# EAGLE library part GQ?* (library df4iah_relay)
ULTRA-SMALL PACKAGE FLAT POLARIZED RELAY NAiS Source: http://www.mew-europe.com/.. en_ds_61008_0000.pdf
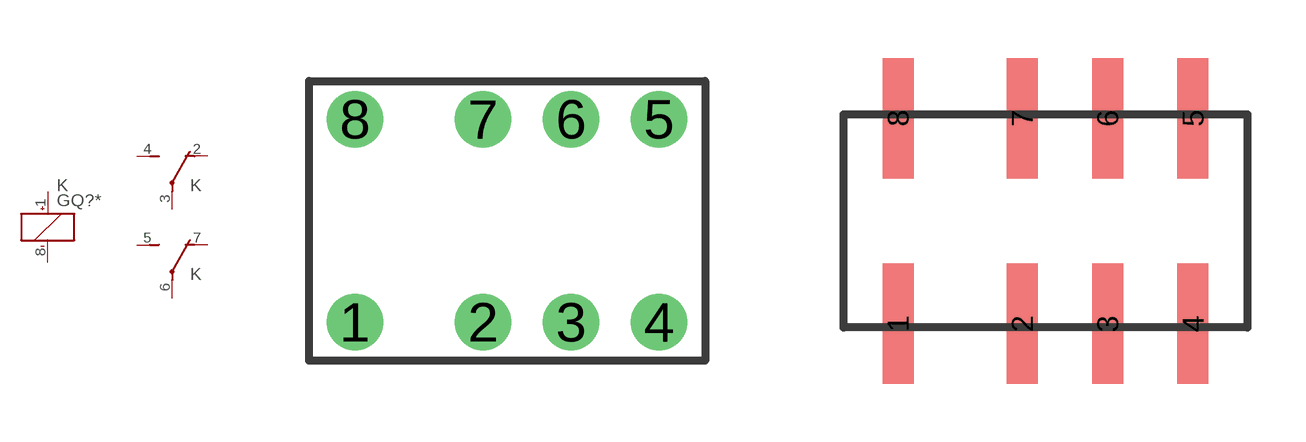
[diagram p60: symbol with the pads of GQ; footprints GQ, GN-A]

Designator prefix K; gates 1=K+- 2=U 3=U

## GQ20003 (MPN: AGQ20003; OC_FARNELL: unknown; OC_NEWARK: 13P0847), GQ20006 (MF: AROMAT/ MATSUSHITA; MPN: AGQ20006; OC_FARNELL: unknown; OC_NEWARK: 10C3360), GQ20009 (MF: AROMAT/ MATSUSHITA; MPN: AGQ20009; OC_FARNELL: unknown; OC_NEWARK: 10C3361), GQ20012 (MPN: AGQ20012; OC_FARNELL: 3104825; OC_NEWARK: 13P0849), GQ2001H (OC_FARNELL: unknown; OC_NEWARK: unknown), GQ20024 (MPN: AGQ20024; OC_FARNELL: unknown; OC_NEWARK: 13P0850), GQ2004H (MPN: AGQ2004H; OC_FARNELL: 3104813; OC_NEWARK: 13P0851)  [GQ]
1  1:+  pas
2  2:O  pas
3  2:P  pas
4  2:S  pas
5  3:S  pas
6  3:P  pas
7  3:O  pas
8  1:-  pas

## GQ200A03 (MPN: AGQ200A03; OC_FARNELL: 1448336; OC_NEWARK: 13P0835), GQ200A06 (OC_FARNELL: unknown; OC_NEWARK: unknown), GQ200A09 (MF: AROMAT/ MATSUSHITA; MPN: AGQ200A09Z; OC_FARNELL: unknown; OC_NEWARK: 10C3339), GQ200A12 (MPN: AGQ200A12; OC_FARNELL: 3104849; OC_NEWARK: 13P0836), GQ200A1H (OC_FARNELL: unknown; OC_NEWARK: unknown), GQ200A24 (MPN: AGQ200A24; OC_FARNELL: 1448337; OC_NEWARK: 13P0837), GQ200A4H (MPN: AGQ200A4H; OC_FARNELL: 3104837; OC_NEWARK: 13P0838)  [GN-A]
Pads as for GQ

## GQ200S03 (MF: AROMAT/ MATSUSHITA; MPN: AGQ200S03; OC_FARNELL: unknown; OC_NEWARK: 10C3345), GQ200S06 (OC_FARNELL: unknown; OC_NEWARK: unknown), GQ200S09 (OC_FARNELL: unknown; OC_NEWARK: unknown), GQ200S12 (MF: AROMAT/ MATSUSHITA; MPN: AGQ200S12; OC_FARNELL: unknown; OC_NEWARK: 10C3353), GQ200S1H (MPN: AGQ200S1H; OC_FARNELL: unknown; OC_NEWARK: 13P0842), GQ200S24 (MF: AROMAT/ MATSUSHITA; MPN: AGQ200S24; OC_FARNELL: unknown; OC_NEWARK: 10C3355), GQ200S4H (MF: AROMAT/ MATSUSHITA; MPN: AGQ200S4H; OC_FARNELL: unknown; OC_NEWARK: 10C3357)  [GN-S]
Pads as for GQ

## GQ21003 (MF: AROMAT/ MATSUSHITA; MPN: AGQ21003; OC_FARNELL: unknown; OC_NEWARK: 10C3391), GQ21006 (OC_FARNELL: unknown; OC_NEWARK: unknown), GQ21009 (MPN: AGQ21009; OC_FARNELL: unknown; OC_NEWARK: 15P8586), GQ21012 (OC_FARNELL: unknown; OC_NEWARK: unknown), GQ2101H (MF: AROMAT/ MATSUSHITA; MPN: AGQ2101H; OC_FARNELL: unknown; OC_NEWARK: 10C3394), GQ21024 (MF: AROMAT/ MATSUSHITA; MPN: AGQ21024; OC_FARNELL: unknown; OC_NEWARK: 10C3396), GQ2104H (MPN: AGQ2104H; OC_FARNELL: unknown; OC_NEWARK: 15P8587)  [GQ]
1  1:-  pas
2  2:O  pas
3  2:P  pas
4  2:S  pas
5  3:S  pas
6  3:P  pas
7  3:O  pas
8  1:+  pas

## GQ210A03 (MPN: AGQ210A03; OC_FARNELL: unknown; OC_NEWARK: 15P8580), GQ210A06 (OC_FARNELL: unknown; OC_NEWARK: unknown), GQ210A09 (OC_FARNELL: unknown; OC_NEWARK: unknown), GQ210A12 (OC_FARNELL: unknown; OC_NEWARK: unknown), GQ210A1H (MPN: AGQ210A1H; OC_FARNELL: unknown; OC_NEWARK: 15P8581), GQ210A24 (OC_FARNELL: unknown; OC_NEWARK: unknown), GQ210A4H (MPN: AGQ210A4H; OC_FARNELL: unknown; OC_NEWARK: 15P8582)  [GQ-A]
Pads as for GQ

## GQ210S03 (OC_FARNELL: unknown; OC_NEWARK: unknown), GQ210S06 (OC_FARNELL: unknown; OC_NEWARK: unknown), GQ210S09 (OC_FARNELL: unknown; OC_NEWARK: unknown), GQ210S12V (OC_FARNELL: unknown; OC_NEWARK: unknown), GQ210S1H (OC_FARNELL: unknown; OC_NEWARK: unknown), GQ210S24 (OC_FARNELL: unknown; OC_NEWARK: unknown), GQ210S4H (MPN: AGQ210S4H; OC_FARNELL: unknown; OC_NEWARK: 15P8583)  [GN-S]
Pads as for GQ

## Footprint GQ (pad centres in mm)
ULTRA-SMALL PACKAGE FLAT POLARIZED RELAY NAiS Source: http://www.mew-europe.com/.. en_ds_61008_0000.pdf
drill 0.9: 1 -3.8,-2.54; 2 -0.6,-2.54; 3 1.6,-2.54; 4 3.8,-2.54; 5 3.8,2.54; 6 1.6,2.54; 7 -0.6,2.54; 8 -3.8,2.54

## Footprint GN-A (pad centres in mm)
ULTRA-SMALL PACKAGE SLIM POLARIZED RELAY NAiS Source: http://www.mew-europe.com/.. en_ds_61007_0000.pdf
smd 0.8 x 3.1: 1 -3.835,-2.65; 2 -0.635,-2.65; 3 1.565,-2.65; 4 3.765,-2.65; 5 3.765,2.65; 6 1.565,2.65; 7 -0.635,2.65; 8 -3.835,2.65

## Footprint GN-S (pad centres in mm)
ULTRA-SMALL PACKAGE SLIM POLARIZED RELAY NAiS Source: http://www.mew-europe.com/.. en_ds_61007_0000.pdf
smd 0.8 x 2.25: 1 -3.835,-2.225; 2 -0.635,-2.225; 3 1.565,-2.225; 4 3.765,-2.225; 5 3.765,2.225; 6 1.565,2.225; 7 -0.635,2.225; 8 -3.835,2.225

## Footprint GQ-A (pad centres in mm)
ULTRA-SMALL PACKAGE FLAT POLARIZED RELAY NAiS Source: http://www.mew-europe.com/.. en_ds_61008_0000.pdf
smd 0.8 x 2.66: 1 -3.8,-3.37; 2 -0.6,-3.37; 3 1.6,-3.37; 4 3.8,-3.37; 5 3.8,3.37; 6 1.6,3.37; 7 -0.6,3.37; 8 -3.8,3.37